# Altium footprint library SOIC_Boton.PcbLib: 1 footprints
Each footprint in its own frame and in the unit in brackets; x right, y up, seen from the top. Pads: shape width x height; smd on the part's side, far side on the other; paste and mask are expansions set on the pad; w line width, h text height; cw(c..) or ccw(c..) is an arc to the next point about the centre after c.
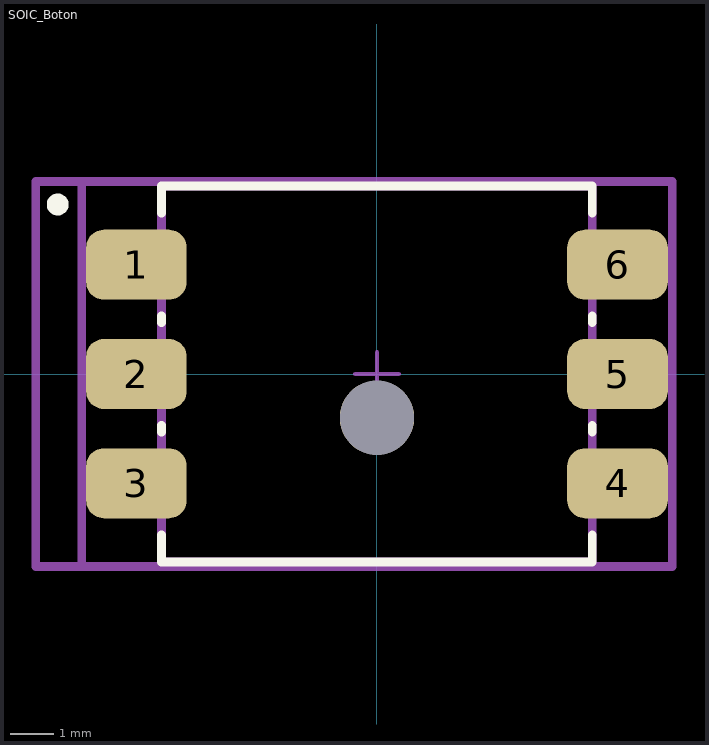
[diagram p0: the footprint, top view; thin cyan lines are the x and y axes]

## SOIC_Boton [mm]
pads (7):
  rrect50% 2.3x1.6 smd: 1(-5.5,2.5) 2(-5.5,0) 3(-5.5,-2.5) 4(5.5,-2.5) 5(5.5,0) 6(5.5,2.5)
  round 1.7 hole 1.7 unplated paste-2539.97 mask+0: ""(0,-1)
Top Overlay:
  circle w0.25: c-7.3,3.875 r0.125
  lines w0.2: -4.925,-3.675 -4.925,-4.3 4.925,-4.3 4.925,-3.675 ; -4.925,-1.325 -4.925,-1.175 ; -4.925,1.175 -4.925,1.325 ; -4.925,3.675 -4.925,4.3 4.925,4.3 4.925,3.675 ; 4.925,-1.325 4.925,-1.175 ; 4.925,1.175 4.925,1.325
Top Assembly:
  lines w0.2: -6.75,-4.4 -6.75,4.4 6.75,4.4 6.75,-4.4 -6.75,-4.4
  text ".Designator" at 0.208,-4.025 h0.8
Top 3D Body:
  lines w0.2: -4.925,-4.3 -4.925,4.3 4.925,4.3 4.925,-4.3 -4.925,-4.3
  text "1" at -3.925,2.075 h1
Top Courtyard:
  lines w0.1: -0.5,0 0.5,0 ; 0,-0.5 0,0.5
  lines w0.2: -7.8,-4.4 -7.8,4.4 6.75,4.4 6.75,-4.4 -7.8,-4.4
3D body "Switch_Panasonic_Electronic_Components_ESB-33535A_eec.STEP": height 0.25, standoff 0, extent -6.7,-4.375 6.8,4.425